# Altium footprint library NEW_PCB_2021-12-26.PcbLib: 1 footprints
Each footprint in its own frame and in the unit in brackets; x right, y up, seen from the top. Pads: shape width x height; smd on the part's side, far side on the other; paste and mask are expansions set on the pad; w line width, h text height; cw(c..) or ccw(c..) is an arc to the next point about the centre after c.
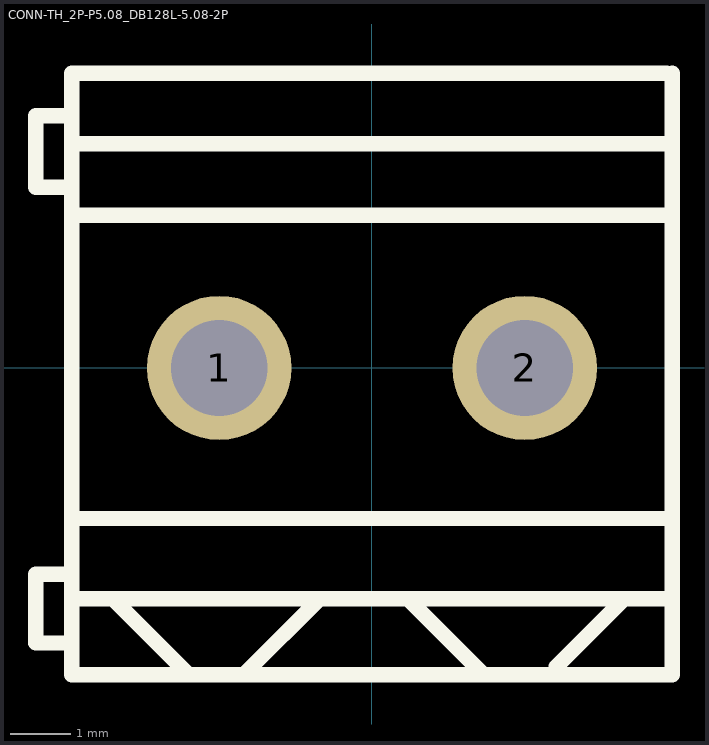
[diagram p0: the footprint, top view; thin cyan lines are the x and y axes]

## CONN-TH_2P-P5.08_DB128L-5.08-2P [mm]
pads (2):
  round 2.4 hole 1.6: 1(-2.54,0) 2(2.54,0)
Top Overlay:
  lines w0.254: -4.99,-5.1 -4.99,4.9 4.9,4.9 ; -4.99,-3.838 4.99,-3.838 ; -4.99,-2.469 -4.956,-2.503 4.99,-2.503 ; -4.99,2.54 4.99,2.54 ; -4.99,3.729 4.99,3.729 ; -4.988,-4.572 -5.588,-4.572 -5.588,-3.428 -4.988,-3.428 ; -4.988,3.003 -5.588,3.003 -5.588,4.192 -4.988,4.192 ; -4.96,-5.1 4.99,-5.1 4.99,4.9 ; -4.277,-3.838 -4.277,-3.866 -3.083,-5.06 ; -2.092,-5.06 -2.092,-5.057 -0.873,-3.838 ; 0.473,-3.838 0.597,-3.838 1.819,-5.06 ; 3.064,-5.06 3.064,-4.962 4.187,-3.838